# EAGLE library part TXB0108 (library texas)
VOLTAGE-LEVEL TRANSLATOR
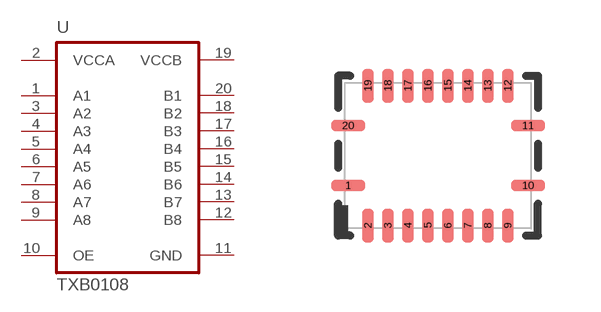
[diagram p36: symbol with the pads of R-PVQFN-N20; footprint R-PVQFN-N20]

Designator prefix U

## TXB0108  [R-PVQFN-N20]
1  A1
2  VCCA  pwr
3  A2
4  A3
5  A4
6  A5
7  A6
8  A7
9  A8
10  OE  in
11  GND  pwr
12  B8
13  B7
14  B6
15  B5
16  B4
17  B3
18  B2
19  VCCB  pwr
20  B1

## Footprint R-PVQFN-N20 (pad centres in mm)
PVQFN-N20 PLASTIC QUAT FLATPACK
smd 0.85 x 0.28: 1 -2.25,-0.75; 10 2.25,-0.75; 11 2.25,0.75; 20 -2.25,0.75
smd 0.28 x 0.85: 2 -1.75,-1.75; 3 -1.25,-1.75; 4 -0.75,-1.75; 5 -0.25,-1.75; 6 0.25,-1.75; 7 0.75,-1.75; 8 1.25,-1.75; 9 1.75,-1.75; 12 1.75,1.75; 13 1.25,1.75; 14 0.75,1.75; 15 0.25,1.75; 16 -0.25,1.75; 17 -0.75,1.75; 18 -1.25,1.75; 19 -1.75,1.75